# Altium schematic symbol library LCD2004_I2C.SchLib: 1 symbol
Pins are listed as number, name and electrical type; pins without a type are passive.

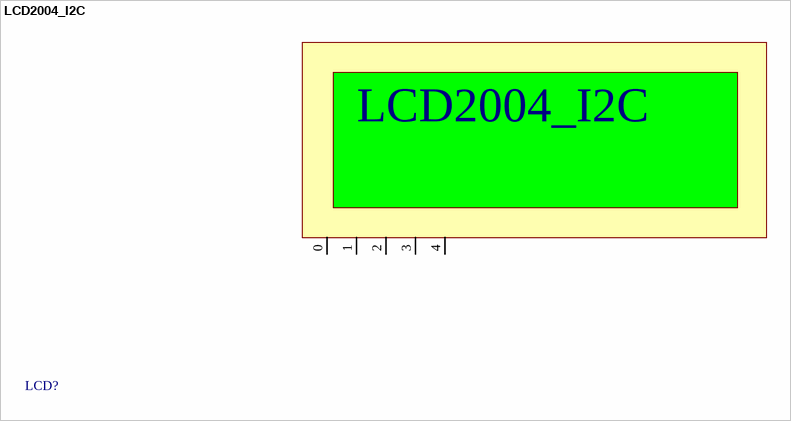
[diagram p0: symbol LCD2004_I2C]

## LCD2004_I2C
designator LCD?, comment 2004_I2C  (value not drawn)
footprint LCD2004_I2C
pins: 0, 1, 2, 3, 4